# Altium footprint library PCB - LEADLESS - QFN - TI QFN-40 RGF0040B.PcbLib: 1 footprints
Each footprint in its own frame and in the unit in brackets; x right, y up, seen from the top. Pads: shape width x height; smd on the part's side, far side on the other; paste and mask are expansions set on the pad; w line width, h text height; cw(c..) or ccw(c..) is an arc to the next point about the centre after c.
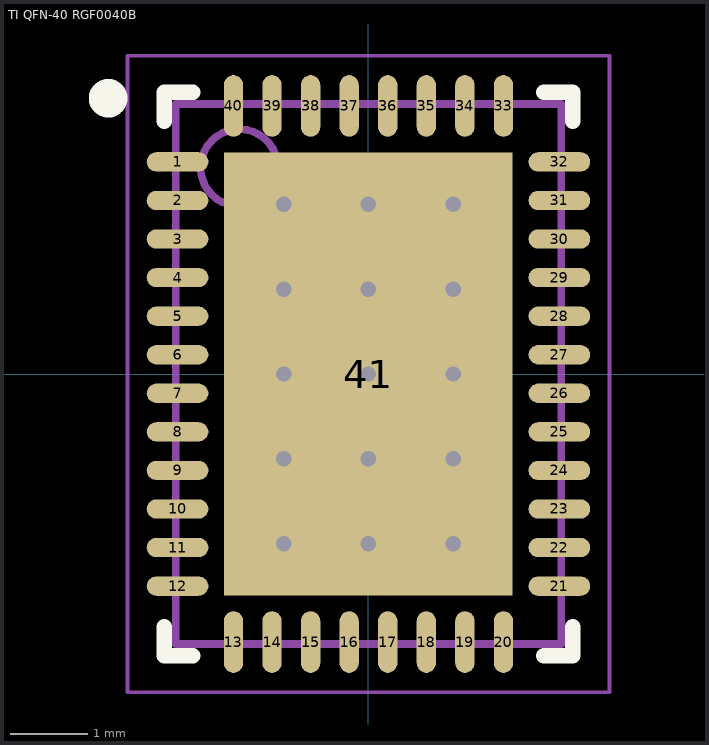
[diagram p0: the footprint, top view; thin cyan lines are the x and y axes]

## TI QFN-40 RGF0040B [mm] "QFN, 40-Leads, Body 5.00x7.00mm, Pitch 0.50mm, Thermal Pad 3.74x5.74mm, IPC Medium Density"
height 1
pads (41):
  oval 0.8x0.25 smd: 1(-2.475,2.75) 2(-2.475,2.25) 3(-2.475,1.75) 4(-2.475,1.25) 5(-2.475,0.75) 6(-2.475,0.25) 7(-2.475,-0.25) 8(-2.475,-0.75) 9(-2.475,-1.25) 10(-2.475,-1.75) 11(-2.475,-2.25) 12(-2.475,-2.75) 21(2.475,-2.75) 22(2.475,-2.25) 23(2.475,-1.75) 24(2.475,-1.25) 25(2.475,-0.75) 26(2.475,-0.25) 27(2.475,0.25) 28(2.475,0.75) 29(2.475,1.25) 30(2.475,1.75) 31(2.475,2.25) 32(2.475,2.75)
  oval 0.25x0.8 smd: 13(-1.75,-3.475) 14(-1.25,-3.475) 15(-0.75,-3.475) 16(-0.25,-3.475) 17(0.25,-3.475) 18(0.75,-3.475) 19(1.25,-3.475) 20(1.75,-3.475) 33(1.75,3.475) 34(1.25,3.475) 35(0.75,3.475) 36(0.25,3.475) 37(-0.25,3.475) 38(-0.75,3.475) 39(-1.25,3.475) 40(-1.75,3.475)
  rect 3.74x5.74 smd: 41(0,0)
via -1.1,2.2 diameter 0.5 hole 0.2
via 0,2.2 diameter 0.5 hole 0.2
via 1.1,2.2 diameter 0.5 hole 0.2
via -1.1,1.1 diameter 0.5 hole 0.2
via 0,1.1 diameter 0.5 hole 0.2
via 1.1,1.1 diameter 0.5 hole 0.2
via -1.1,0 diameter 0.5 hole 0.2
via 0,0 diameter 0.5 hole 0.2
via 1.1,0 diameter 0.5 hole 0.2
via -1.1,-1.1 diameter 0.5 hole 0.2
via 0,-1.1 diameter 0.5 hole 0.2
via 1.1,-1.1 diameter 0.5 hole 0.2
via -1.1,-2.2 diameter 0.5 hole 0.2
via 0,-2.2 diameter 0.5 hole 0.2
via 1.1,-2.2 diameter 0.5 hole 0.2
Top Overlay:
  circle w0.25: c-3.375,3.575 r0.125
  lines w0.2: -2.65,-3.275 -2.65,-3.65 -2.275,-3.65 ; -2.65,3.275 -2.65,3.65 -2.275,3.65 ; 2.275,-3.65 2.65,-3.65 2.65,-3.275 ; 2.275,3.65 2.65,3.65 2.65,3.275
Mechanical 13:
  circle w0.1: c-1.675,2.675 r0.5
  lines w0.1: -2.5,-3.5 -2.5,3.5 2.5,3.5 2.5,-3.5 -2.5,-3.5
Mechanical 15:
  lines w0.05: -3.125,-4.125 -3.125,4.125 3.125,4.125 3.125,-4.125 -3.125,-4.125
  lines w0.1: -0.5,0 0.5,0 ; 0,-0.5 0,0.5
3D body: height 1, standoff 0, extent -2.5,-3.5 2.5,3.5